# Altium footprint library RaspberryPi.PcbLib: 1 footprints
Each footprint in its own frame and in the unit in brackets; x right, y up, seen from the top. Pads: shape width x height; smd on the part's side, far side on the other; paste and mask are expansions set on the pad; w line width, h text height; cw(c..) or ccw(c..) is an arc to the next point about the centre after c.
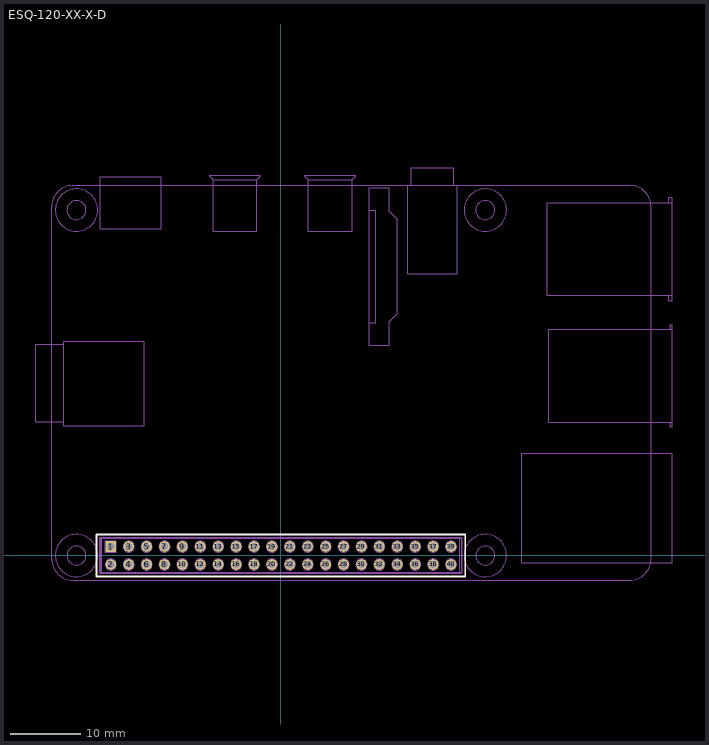
[diagram p0: the footprint, top view; thin cyan lines are the x and y axes]

## ESQ-120-XX-X-D [mil]
pads (40):
  rect 60x60 hole 40: 1(-950,50)
  round 60 hole 40: 2(-950,-50) 3(-850,50) 4(-850,-50) 5(-750,50) 6(-750,-50) 7(-650,50) 8(-650,-50) 9(-550,50) 10(-550,-50) 11(-450,50) 12(-450,-50) 13(-350,50) 14(-350,-50) 15(-250,50) 16(-250,-50) 17(-150,50) 18(-150,-50) 19(-50,50) 20(-50,-50) 21(50,50) 22(50,-50) 23(150,50) 24(150,-50) 25(250,50) 26(250,-50) 27(350,50) 28(350,-50) 29(450,50) 30(450,-50) 31(550,50) 32(550,-50) 33(650,50) 34(650,-50) 35(750,50) 36(750,-50) 37(850,50) 38(850,-50) 39(950,50) 40(950,-50)
Top Overlay:
  lines w10: -1030,-117.48 -1030,117.48 1030,117.48 1030,-117.48 -1030,-117.48
Mechanical 6:
  circle w0.5: c-1141.61,-0.23 r118.11
  circle w0.5: c-1141.61,-0.23 r53.15
  circle w0.5: c-1141.61,1928.91 r118.11
  circle w0.5: c-1141.61,1928.91 r53.15
  circle w0.5: c1141.85,-0.23 r53.15
  circle w0.5: c1141.85,1928.91 r53.15
  circle w0.5: c1141.85,-0.23 r118.11
  circle w0.5: c1141.85,1928.91 r118.11
  lines w0.5: -1213.07,747.41 -1368.58,747.41 -1368.58,1180.48 -1213.07,1180.48 ; 494.21,1298.99 529.65,1298.99 529.65,1928.91 494.21,1928.91 ; 2165.47,1453.71 2165.47,1423 2185.16,1423 2185.16,1453.71 ; 2165.47,1971.03 2165.47,2001.74 2185.16,2001.74 2185.16,1453.71 ; 2173.35,745.05 2173.35,718.28 2185.16,718.28 2185.16,745.05 ; 2173.35,1262.37 2173.35,1289.14 2185.16,1289.14 2185.16,1262.37 ; 2185.16,1971.03 1488.31,1971.03 1488.31,1453.71 2185.16,1453.71 ; -377.83,2099.38 -397.52,2119.06 -397.52,2123 -114.06,2123 -114.06,2119.06 -133.74,2099.38 ; -377.83,2099.38 -377.83,1810.01 -133.74,1810.01 -133.74,2099.38 ; -377.83,2099.38 -133.74,2099.38 ; 153.66,2099.38 133.98,2119.06 133.98,2123 417.44,2123 417.44,2119.06 397.76,2099.38 ; 153.66,2099.38 153.66,1810.01 397.76,1810.01 397.76,2099.38 ; 153.66,2099.38 397.76,2099.38 ; 2185.16,745.05 2185.16,1262.37 ; 2185.16,745.05 1496.18,745.05 1496.18,1262.37 2185.16,1262.37 ; -1213.07,724.18 -1213.07,1196.23 -762.28,1196.23 -762.28,724.18 -1213.07,724.18 ; -1008.74,1824.58 -1008.74,2115.91 -668.19,2115.91 -668.19,1824.58 -1008.74,1824.58 ; -999.88,-98.65 1000.12,-98.65 1000.12,98.2 -999.88,98.2 -999.88,-98.65 ; 494.21,1173 494.21,2054.89 606.42,2054.89 606.42,1921.03 649.72,1877.73 649.72,1350.17 604.45,1304.89 604.45,1173 494.21,1173 ; 708.78,1574.58 708.78,2066.7 984.37,2066.7 984.37,1574.58 708.78,1574.58 ; 728.46,2066.7 728.46,2165.13 964.68,2165.13 964.68,2066.7 728.46,2066.7 ; 1344.61,-39.79 1344.61,570.84 2185.16,570.84 2185.16,-39.79 1344.61,-39.79
  lines w5: -1279.41,-19.91 ccw(c-1161.3,-19.91) -1161.3,-138.02 1948.94,-138.02 ccw(c1948.94,-19.91) 2067.05,-19.91 2067.05,1948.59 ccw(c1948.94,1948.59) 1948.94,2066.7 -1161.3,2066.7 ccw(c-1161.3,1948.59) -1279.41,1948.59 -1279.41,-19.91
Mechanical 7:
  circle w0.5: c-949.88,-50.23 r31.5
  circle w0.5: c-849.88,-50.23 r31.5
  circle w0.5: c-849.88,49.77 r31.5
  circle w0.5: c-749.88,49.77 r31.5
  circle w0.5: c-749.88,-50.23 r31.5
  circle w0.5: c-649.88,49.77 r31.5
  circle w0.5: c-649.88,-50.23 r31.5
  circle w0.5: c-549.88,-50.23 r31.5
  circle w0.5: c-549.88,49.77 r31.5
  circle w0.5: c-449.88,49.77 r31.5
  circle w0.5: c-449.88,-50.23 r31.5
  circle w0.5: c-349.88,-50.23 r31.5
  circle w0.5: c-349.88,49.77 r31.5
  circle w0.5: c-249.88,-50.23 r31.5
  circle w0.5: c-249.88,49.77 r31.5
  circle w0.5: c-149.88,-50.23 r31.5
  circle w0.5: c-149.88,49.77 r31.5
  circle w0.5: c-49.88,49.77 r31.5
  circle w0.5: c-49.88,-50.23 r31.5
  circle w0.5: c50.12,49.77 r31.5
  circle w0.5: c50.12,-50.23 r31.5
  circle w0.5: c150.12,49.77 r31.5
  circle w0.5: c150.12,-50.23 r31.5
  circle w0.5: c250.12,-50.23 r31.5
  circle w0.5: c250.12,49.77 r31.5
  circle w0.5: c350.12,-50.23 r31.5
  circle w0.5: c350.12,49.77 r31.5
  circle w0.5: c450.12,49.77 r31.5
  circle w0.5: c450.12,-50.23 r31.5
  circle w0.5: c550.12,-50.23 r31.5
  circle w0.5: c550.12,49.77 r31.5
  circle w0.5: c650.12,-50.23 r31.5
  circle w0.5: c650.12,49.77 r31.5
  circle w0.5: c750.12,-50.23 r31.5
  circle w0.5: c750.12,49.77 r31.5
  circle w0.5: c850.12,-50.23 r31.5
  circle w0.5: c850.12,49.77 r31.5
  circle w0.5: c950.12,-50.23 r31.5
  circle w0.5: c950.12,49.77 r31.5
  lines w0.5: -981.38,18.28 -918.39,18.28 -918.39,81.27 -981.38,81.27 -981.38,18.28
Mechanical 8:
  circle w0.5: c-949.88,-50.23 r31.5
  circle w0.5: c-849.88,-50.23 r31.5
  circle w0.5: c-849.88,49.77 r31.5
  circle w0.5: c-749.88,-50.23 r31.5
  circle w0.5: c-749.88,49.77 r31.5
  circle w0.5: c-649.88,49.77 r31.5
  circle w0.5: c-649.88,-50.23 r31.5
  circle w0.5: c-549.88,-50.23 r31.5
  circle w0.5: c-549.88,49.77 r31.5
  circle w0.5: c-449.88,-50.23 r31.5
  circle w0.5: c-449.88,49.77 r31.5
  circle w0.5: c-349.88,49.77 r31.5
  circle w0.5: c-349.88,-50.23 r31.5
  circle w0.5: c-249.88,-50.23 r31.5
  circle w0.5: c-249.88,49.77 r31.5
  circle w0.5: c-149.88,-50.23 r31.5
  circle w0.5: c-149.88,49.77 r31.5
  circle w0.5: c-49.88,-50.23 r31.5
  circle w0.5: c-49.88,49.77 r31.5
  circle w0.5: c50.12,-50.23 r31.5
  circle w0.5: c50.12,49.77 r31.5
  circle w0.5: c150.12,-50.23 r31.5
  circle w0.5: c150.12,49.77 r31.5
  circle w0.5: c250.12,-50.23 r31.5
  circle w0.5: c250.12,49.77 r31.5
  circle w0.5: c350.12,49.77 r31.5
  circle w0.5: c350.12,-50.23 r31.5
  circle w0.5: c450.12,49.77 r31.5
  circle w0.5: c450.12,-50.23 r31.5
  circle w0.5: c550.12,-50.23 r31.5
  circle w0.5: c550.12,49.77 r31.5
  circle w0.5: c650.12,-50.23 r31.5
  circle w0.5: c650.12,49.77 r31.5
  circle w0.5: c750.12,49.77 r31.5
  circle w0.5: c750.12,-50.23 r31.5
  circle w0.5: c850.12,-50.23 r31.5
  circle w0.5: c850.12,49.77 r31.5
  circle w0.5: c950.12,49.77 r31.5
  circle w0.5: c950.12,-50.23 r31.5
  lines w0.5: -981.38,18.28 -981.38,81.27 -918.39,81.27 -918.39,18.28 -981.38,18.28
Mechanical 13:
  lines w10: -1010,-97.48 -1010,97.48 1010,97.48 1010,-97.48 -1010,-97.48